# EAGLE library part 24LC1025T-I/SN (library mbed-HDK-IC)
EEPROM IC 1MBIT 400KHZ 8SOIC
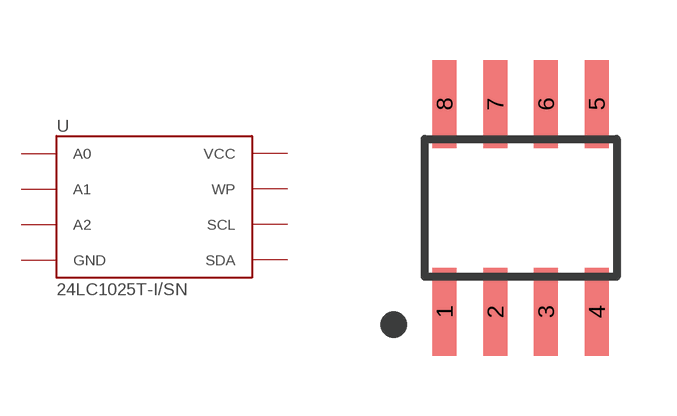
[diagram p25: symbol with the pads of SO8; footprint SO8]

Designator prefix U

## 24LC1025T-I/SN (MF: Microchip Technology; MFN: 24LC1025T-I/SN; OC-DIGIKEY: 24LC1025T-I/SNCT-ND; OC-MOUSER: 579-24LC1025T-I/SN; OC-NEWARK: 86W6594)  [SO8]
1  A0
2  A1
3  A2
4  GND
5  SDA
6  SCL
7  WP
8  VCC

## Footprint SO8 (pad centres in mm)
smd 0.6 x 2.2: 1 -1.905,-2.6; 2 -0.635,-2.6; 3 0.635,-2.6; 4 1.905,-2.6; 5 1.905,2.6; 6 0.635,2.6; 7 -0.635,2.6; 8 -1.905,2.6